# EAGLE library part TE-969973-5 (library TE-969973-FemaleHeaderSMD)
TE 969973 10-way 2x5 SMD Female Header
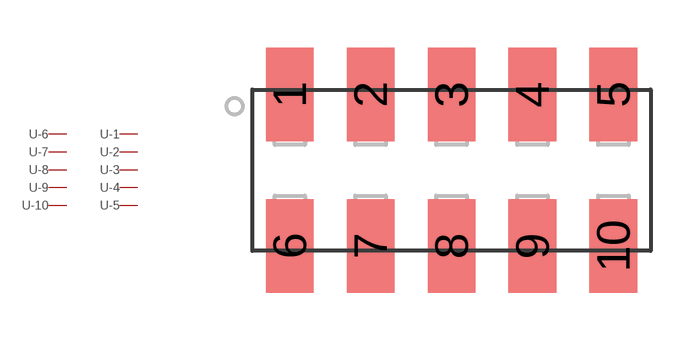
[diagram p2: symbol with the pads of 969973-5; footprint 969973-5]

Designator prefix -; gates -1=PIN -2=PIN -3=PIN -4=PIN -5=PIN -6=PIN -7=PIN -8=PIN -9=PIN -10=PIN

## TE-969973-5  [969973-5]
1  -1:P$1
2  -2:P$1
3  -3:P$1
4  -4:P$1
5  -5:P$1
6  -6:P$1
7  -7:P$1
8  -8:P$1
9  -9:P$1
10  -10:P$1

## Footprint 969973-5 (pad centres in mm)
smd 1.5 x 2.93: 1 -5.08,2.375; 2 -2.54,2.375; 3 0,2.375; 4 2.54,2.375; 5 5.08,2.375; 6 -5.08,-2.375; 7 -2.54,-2.375; 8 0,-2.375; 9 2.54,-2.375; 10 5.08,-2.375